# Altium footprint library JLC_25.PcbLib: 76 footprints (part 4 of 5)
Each footprint in its own frame and in the unit in brackets; x right, y up, seen from the top. Pads: shape width x height; smd on the part's side, far side on the other; paste and mask are expansions set on the pad; w line width, h text height; cw(c..) or ccw(c..) is an arc to the next point about the centre after c.
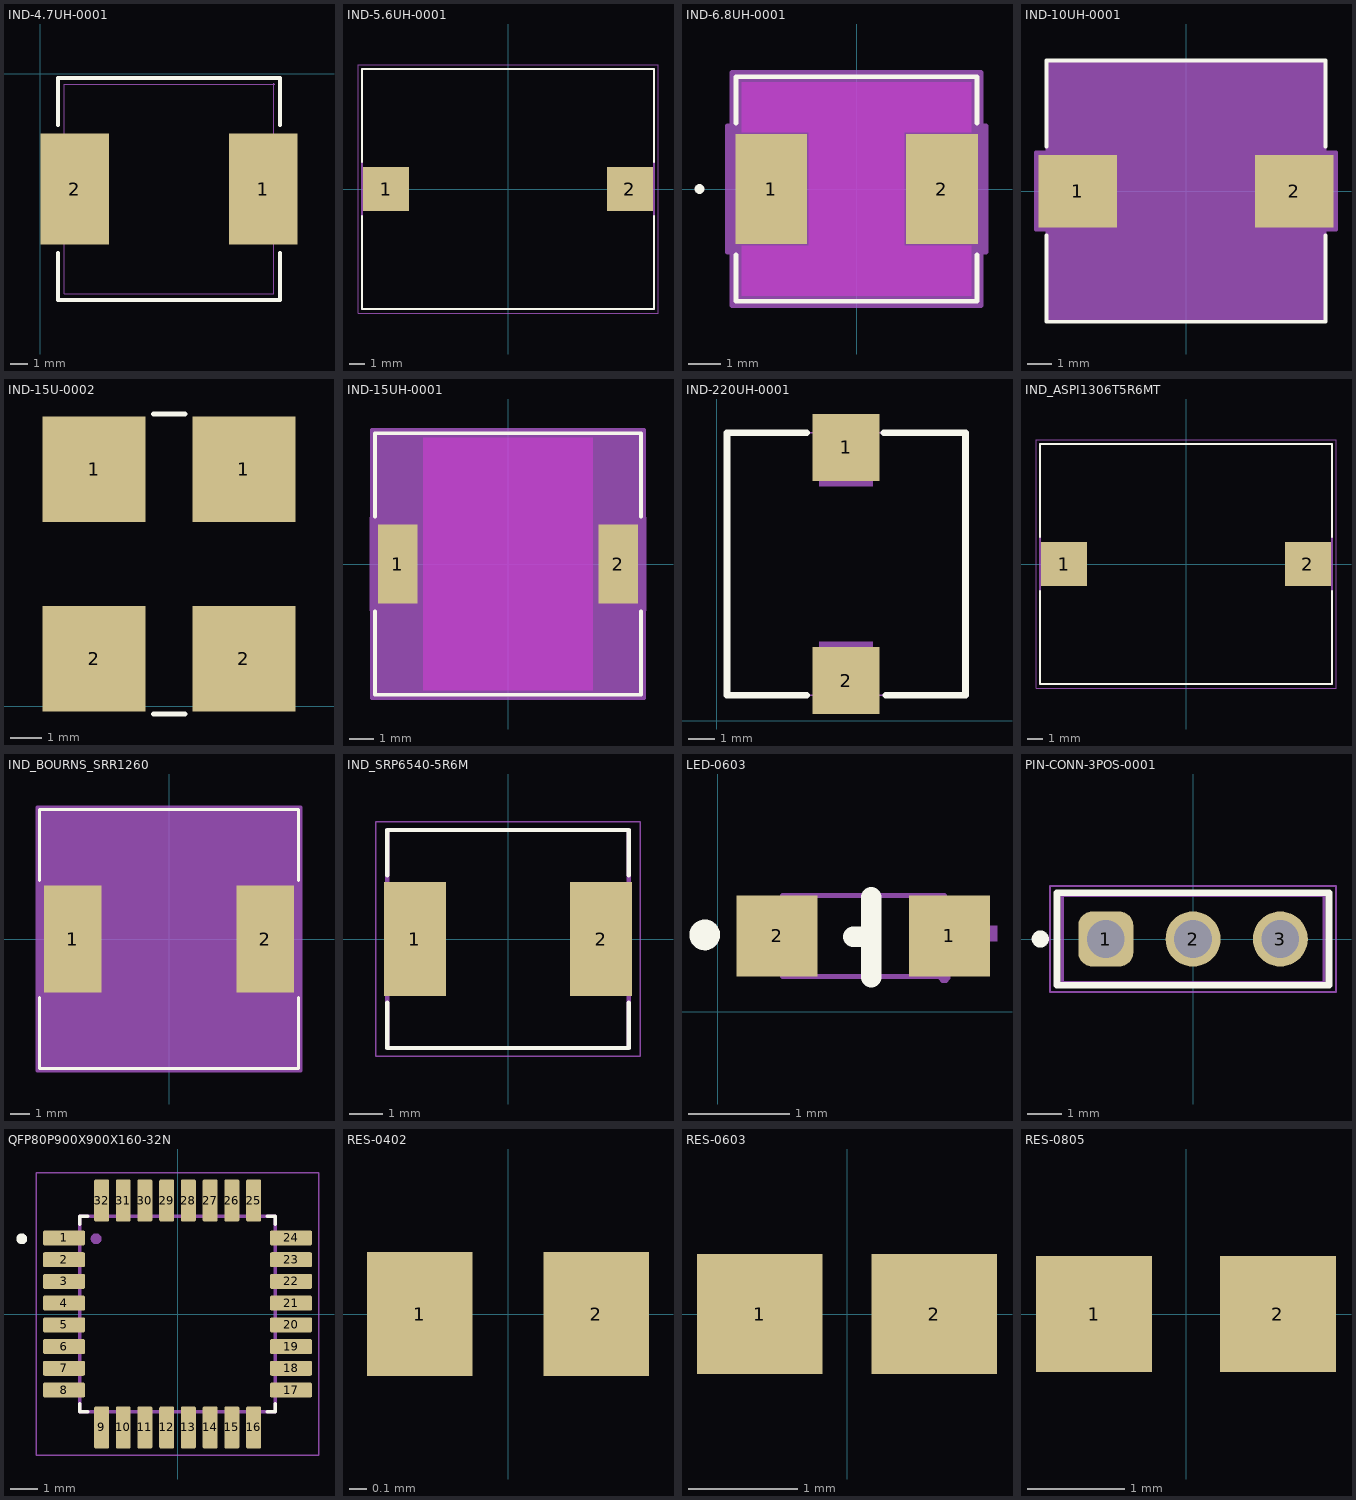
[diagram p3: the footprints below, top view; thin cyan lines are the x and y axes]

## IND-4.7UH-0001 [mm]
pads (2):
  rect 4x6.5 smd paste+0 mask+0.051: 1(13,-6.731) 2(2,-6.731)
Top Overlay:
  lines w0.254: 1.023,-10.462 1.023,-13.208 2.039,-13.208 7.5,-13.208 12.898,-13.208 13.977,-13.208 13.977,-10.462 ; 1.023,-3 1.023,-0.254 2.103,-0.254 7.5,-0.254 12.961,-0.254 13.977,-0.254 13.977,-3
Mechanical 15:
  region: 13.66,-0.631 13.66,-0.606 13.625,-0.572 13.576,-0.572 13.541,-0.606 13.54,-0.631 13.541,-0.655 13.576,-0.69 13.625,-0.69 13.66,-0.655
  region: 11.4,-4.231 13.6,-4.231 13.6,-9.231 11.4,-9.231
  region: 1.4,-4.231 3.6,-4.231 3.6,-9.231 1.4,-9.231
  lines w0.051: 1.4,-12.831 1.4,-0.631 13.6,-0.631 13.6,-12.831 1.4,-12.831

## IND-5.6UH-0001 [mm]
height 7.11
pads (2):
  rect 2.92x2.79 smd: 1(-7.73,0) 2(7.73,0)
Top Overlay:
  lines w0.127: -9.27,-1.715 -9.27,-7.62 9.27,-7.62 9.27,-1.715 ; -9.27,1.715 -9.27,7.62 9.27,7.62 9.27,1.715
Mechanical 13:
  lines w0.127: -9.27,-7.62 -9.27,7.62 9.27,7.62 9.27,-7.62 -9.27,-7.62
Mechanical 15:
  lines w0.05: -9.52,-7.87 -9.52,7.87 9.52,7.87 9.52,-7.87 -9.52,-7.87
3D body "ASPI-1306T.STEP": height 6.23, standoff -0.87, extent -9.27,-7.62 9.27,7.62

## IND-6.8UH-0001 [mil]
pads (2):
  rect 88x135 smd paste+0 mask+0: 1(-104.5,0) 2(104.5,0)
Top Layer keep-out:
  region: -140.5,-130.5 -140.5,-69.5 140.5,-69.5 140.5,-130.5
  region: -140.5,69.5 -140.5,130.5 140.5,130.5 140.5,69.5
  region: -58.5,-69.5 -58.5,69.5 58.5,69.5 58.5,-69.5
Top Overlay:
  circle w6: c-192.5,0 r3
  lines w6: -147.5,-80.6 -147.5,-137.5 147.5,-137.5 147.5,-80.6 ; -147.5,80.6 -147.5,137.5 147.5,137.5 147.5,80.6
Keep-Out Layer:
  region: -58.5,-69.5 -58.5,69.5 58.5,69.5 58.5,-69.5
Mechanical 13:
  circle w0: c-122.5,0 r3
  lines w1: -142.5,-132.5 -142.5,132.5 142.5,132.5 142.5,-132.5 -142.5,-132.5
Mechanical 15:
  region: -152.5,-77.5 -158.5,-77.5 -158.5,77.5 -152.5,77.5 -152.5,142.5 152.5,142.5 152.5,77.5 158.5,77.5 158.5,-77.5 152.5,-77.5 152.5,-142.5 -152.5,-142.5
  lines w6: -158.5,-77.5 -152.5,-77.5 -152.5,-142.5 152.5,-142.5 152.5,-77.5 158.5,-77.5 158.5,77.5 152.5,77.5 152.5,142.5 -152.5,142.5 -152.5,77.5 -158.5,77.5 -158.5,-77.5
3D body "IND_IHLP-2525CZ_VIS.step": height 120, standoff 0, extent -142.52,-132.52 142.52,132.52

## IND-10UH-0001 [mil]
pads (2):
  rect 126x116 smd paste+0 mask+0: 1(-173.5,0) 2(173.5,0)
Top Overlay:
  lines w6: -223.5,-71.1 -223.5,-209.5 223.5,-209.5 223.5,-71.1 ; -223.5,71.1 -223.5,209.5 223.5,209.5 223.5,71.1
Mechanical 13:
  circle w0: c-110.5,0 r3
  lines w0: -12,204.5 ccw(c0,204.5) 12,204.5
  lines w1: -218.5,-204.5 -218.5,204.5 218.5,204.5 218.5,-204.5 -218.5,-204.5
Mechanical 15:
  region: -222.5,-62 -240.5,-62 -240.5,62 -222.5,62 -222.5,208.5 222.5,208.5 222.5,62 240.5,62 240.5,-62 222.5,-62 222.5,-208.5 -222.5,-208.5
  lines w6: -240.5,-62 -222.5,-62 -222.5,-208.5 222.5,-208.5 222.5,-62 240.5,-62 240.5,62 222.5,62 222.5,208.5 -222.5,208.5 -222.5,62 -240.5,62 -240.5,-62
3D body "IND_BMRF001010401_PUL.step": height 157.09, standoff 0, extent -228.5,-204.49 228.5,204.49

## IND-15U-0002 [mm] "12V Buck"
pads (4):
  rect 3.3x3.4 smd paste+0 mask+0: 1(3.175,7.62) 1(8.001,7.62) 2(3.175,1.524) 2(8.001,1.524)
Top Overlay:
  lines w0.152: 5.08,-0.254 6.115,-0.254 ; 5.08,9.398 6.115,9.398
3D body "CSAD1010 3D Model.stp": height 10.79, standoff 0.01, extent -0.189,-0.328 11.111,9.472

## IND-15UH-0001 [mil] "7v Buck"
pads (2):
  rect 63x126 smd paste+0 mask+0: 1(-175.5,0) 2(175.5,0)
Top Layer keep-out:
  region: -135,-201 -135,201 135,201 135,-201
Top Overlay:
  lines w6: -211.5,-75.3 -211.5,-208 211.5,-208 211.5,-75.3 ; -211.5,75.3 -211.5,208 211.5,208 211.5,75.3
Mechanical 13:
  lines w1: -206.5,-203 206.5,-203 206.5,203 -206.5,203 -206.5,-203
Mechanical 15:
  region: -216.5,-73 -217,-73 -217,73 -216.5,73 -216.5,213 216.5,213 216.5,73 217,73 217,-73 216.5,-73 216.5,-213 -216.5,-213
  region: 206.5,-203 -206.5,-203 -206.5,203 206.5,203
  lines w6: -217,-73 -217,73 -216.5,73 -216.5,213 216.5,213 216.5,73 217,73 217,-73 216.5,-73 216.5,-213 -216.5,-213 -216.5,-73 -217,-73
3D body "DR1040.step": height 157.99, standoff 0, extent -206.5,-202.99 206.5,202.99

## IND-220UH-0001 [mm]
pads (2):
  rect 2.5x2.5 smd paste+0 mask+0.05: 1(4.831,10.204) 2(4.831,1.504)
Top Overlay:
  lines w0.254: 3.35,0.954 0.381,0.954 0.381,10.754 3.35,10.754 ; 6.231,10.754 9.281,10.754 9.281,0.954 6.312,0.954
Mechanical 15:
  region: 9.341,10.754 9.341,10.779 9.306,10.814 9.256,10.814 9.221,10.779 9.221,10.754 9.221,10.729 9.256,10.694 9.306,10.694 9.341,10.729
  region: 3.831,2.954 5.831,2.954 5.831,1.454 3.831,1.454
  region: 3.831,10.254 5.831,10.254 5.831,8.754 3.831,8.754
  lines w0.051: 0.381,0.954 0.381,10.754 3.832,10.754 3.832,10.254 5.831,10.254 5.831,10.754 9.281,10.754 9.281,0.954 5.831,0.954 5.83,1.454 3.832,1.454 3.832,0.954 0.381,0.954

## IND_ASPI1306T5R6MT [mm]
height 7.11
pads (2):
  rect 2.92x2.79 smd: 1(-7.73,0) 2(7.73,0)
Top Overlay:
  lines w0.127: -9.27,-1.715 -9.27,-7.62 9.27,-7.62 9.27,-1.715 ; -9.27,1.715 -9.27,7.62 9.27,7.62 9.27,1.715
Mechanical 13:
  lines w0.127: -9.27,-7.62 9.27,-7.62 9.27,7.62 -9.27,7.62 -9.27,-7.62
Mechanical 15:
  lines w0.05: -9.52,-7.87 9.52,-7.87 9.52,7.87 -9.52,7.87 -9.52,-7.87

## IND_BOURNS_SRR1260 [mil]
pads (2):
  rect 114x213 smd paste+0 mask+0: 1(-191,0) 2(191,0)
Top Overlay:
  lines w6: -257,-116.02 -257,-257 257,-257 257,-116.02 ; -257,116.02 -257,257 257,257 257,116.02
Mechanical 13:
  lines w1: -252,-252 -252,252 252,252 252,-252 -252,-252
Mechanical 15:
  region: -262,-116.5 -262,116.5 -262,262 262,262 262,116.5 262,-116.5 262,-262 -262,-262
  lines w6: -262,-262 262,-262 262,-116.5 262,116.5 262,262 -262,262 -262,116.5 -262,-116.5 -262,-262
3D body "IND_BOURNS_SRR1260.step": height 255.98, standoff 0, extent -252.01,-252.09 252.01,252.09

## IND_SRP6540-5R6M [mm]
pads (2):
  rect 1.85x3.4 smd: 1(-2.775,0) 2(2.775,0)
Top Overlay:
  lines w0.127: -3.6,-1.9 -3.6,-3.25 3.6,-3.25 3.6,-1.9 ; -3.6,1.9 -3.6,3.25 3.6,3.25 3.6,1.9
Mechanical 13:
  lines w0.127: -3.6,-3.25 -3.6,3.25 3.6,3.25 3.6,-3.25 -3.6,-3.25
Mechanical 15:
  lines w0.05: -3.95,-3.5 -3.95,3.5 3.95,3.5 3.95,-3.5 -3.95,-3.5
3D body "SRP6540-5R6M.step": height 4.05, standoff 0.06, extent -3.594,-3.251 3.594,3.251

## LED-0603 [mm]
pads (2):
  rect 0.8x0.8 smd: 1(2.291,0.751) 2(0.589,0.751)
Top Overlay:
  circle w0.152: c-0.127,0.762 r0.076
  lines w0.203: 1.341,0.743 1.516,0.743 ; 1.516,0.345 1.516,1.132
Mechanical 6:
  region: 2.1,0.853 2.761,0.853 2.761,0.7 2.1,0.7
  region: 2.376,0.476 2.376,1.136 2.528,1.136 2.528,0.476
  region: 0.247,0.801 0.907,0.801 0.907,0.648 0.247,0.648
Mechanical 15:
  region: 2.3,0.351 2.3,0.376 2.265,0.411 2.215,0.411 2.18,0.376 2.18,0.351 2.18,0.326 2.215,0.291 2.265,0.291 2.3,0.326
  region: 2.24,1.151 2.24,0.351 1.94,0.351 1.94,1.151
  region: 0.64,0.351 0.64,1.151 0.94,1.151 0.94,0.351
  lines w0.051: 0.64,0.351 2.24,0.351 2.24,1.151 0.64,1.151 0.64,0.351
3D body "IN-S63AT5A.stp": height 0.39, standoff 0, extent 0.649,0.356 2.249,1.156

## PIN-CONN-3POS-0001 [mm] "Pin Header, pitch 2.54 mm, THT, Vertical, single row, 3p"
height 8.54
pads (3):
  rrect50% 1.6x1.6 hole 1.1: 1(-2.54,0)
  round 1.6 hole 1.1: 2(0,0) 3(2.54,0)
Top Overlay:
  circle w0.25: c-4.445,0 r0.125
  lines w0.2: -3.96,-1.345 -3.96,1.345 3.96,1.345 3.96,-1.345 -3.96,-1.345
Top Courtyard:
  lines w0.05: -4.16,-1.545 4.16,-1.545 4.16,1.545 -4.16,1.545 -4.16,-1.545
Top Component Outline:
  lines w0.1: -3.81,-1.27 3.81,-1.27 3.81,1.27 -3.81,1.27 -3.81,-1.27
Top Component Center:
  lines w0.05: -0.5,0 0.5,0 ; 0,-0.5 0,0.5
3D body "61300311121.stp": height 8.57, standoff -2.97, extent -3.81,-1.27 3.81,1.27

## QFP80P900X900X160-32N [mm]
pads (32):
  rrect25% 1.56x0.55 smd: 1(-4.18,2.8) 2(-4.18,2) 3(-4.18,1.2) 4(-4.18,0.4) 5(-4.18,-0.4) 6(-4.18,-1.2) 7(-4.18,-2) 8(-4.18,-2.8) 17(4.18,-2.8) 18(4.18,-2) 19(4.18,-1.2) 20(4.18,-0.4) 21(4.18,0.4) 22(4.18,1.2) 23(4.18,2) 24(4.18,2.8)
  rrect25% 0.55x1.56 smd: 9(-2.8,-4.18) 10(-2,-4.18) 11(-1.2,-4.18) 12(-0.4,-4.18) 13(0.4,-4.18) 14(1.2,-4.18) 15(2,-4.18) 16(2.8,-4.18) 25(2.8,4.18) 26(2,4.18) 27(1.2,4.18) 28(0.4,4.18) 29(-0.4,4.18) 30(-1.2,4.18) 31(-2,4.18) 32(-2.8,4.18)
Top Overlay:
  circle w0.2: c-5.74,2.77 r0.1
  lines w0.127: -3.6,-3.3 -3.6,-3.6 -3.3,-3.6 ; -3.6,3.3 -3.6,3.6 -3.3,3.6 ; 3.3,-3.6 3.6,-3.6 3.6,-3.3 ; 3.3,3.6 3.6,3.6 3.6,3.3
Mechanical 13:
  circle w0.2: c-3,2.77 r0.1
  lines w0.127: -3.6,-3.6 -3.6,3.6 3.6,3.6 3.6,-3.6 -3.6,-3.6
Mechanical 15:
  lines w0.05: -5.21,-5.21 -5.21,5.21 5.21,5.21 5.21,-5.21 -5.21,-5.21
3D body "step_temp.STEP": height 0.72, standoff -0.87, extent -4.5,-4.5 4.5,4.5

## RES-0402 [mm]
pads (2):
  rect 0.6x0.7 smd: 1(-0.5,0) 2(0.5,0)
3D body "1879131-6.stp": height 0.3, standoff 0, extent -0.5,-0.25 0.5,0.25

## RES-0603 [mm]
pads (2):
  rect 1.15x1.1 smd: 1(-0.8,0) 2(0.8,0)
3D body "2176051-4.STEP": height 0.43, standoff -0.03, extent -0.8,-0.4 0.8,0.4

## RES-0805 [mm]
pads (2):
  rect 1.2x1.2 smd: 1(-0.95,0) 2(0.95,0)
3D body "RC0805N_PAN.step": height 0.71, standoff 0, extent -1,-0.6 1,0.6